# EAGLE library part ADUM1410 (library PowerSocket)
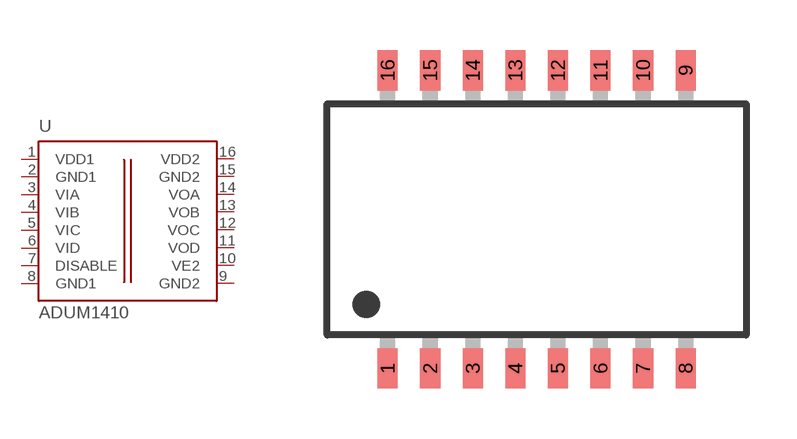
[diagram p4: symbol with the pads of SOIC-16; footprint SOIC-16]

Designator prefix -

## ADUM1410  [SOIC-16]
1  VDD1  in
2  GND1  in
3  VIA  in
4  VIB  in
5  VIC  in
6  VID  in
7  DISABLE  in
8  GND1  in
9  GND2  in
10  VE2  in
11  VOD  hiz
12  VOC  hiz
13  VOB  hiz
14  VOA  hiz
15  GND2  in
16  VDD2  in

## Footprint SOIC-16 (pad centres in mm)
smd 0.6 x 1.2: 1 -4.445,-4.445; 2 -3.175,-4.445; 3 -1.905,-4.445; 4 -0.635,-4.445; 5 0.635,-4.445; 6 1.905,-4.445; 7 3.175,-4.445; 8 4.445,-4.445; 9 4.445,4.445; 10 3.175,4.445; 11 1.905,4.445; 12 0.635,4.445; 13 -0.635,4.445; 14 -1.905,4.445; 15 -3.175,4.445; 16 -4.445,4.445